# Altium footprint library COM Express.PcbLib: 1 footprints
Each footprint in its own frame and in the unit in brackets; x right, y up, seen from the top. Pads: shape width x height; smd on the part's side, far side on the other; paste and mask are expansions set on the pad; w line width, h text height; cw(c..) or ccw(c..) is an arc to the next point about the centre after c.
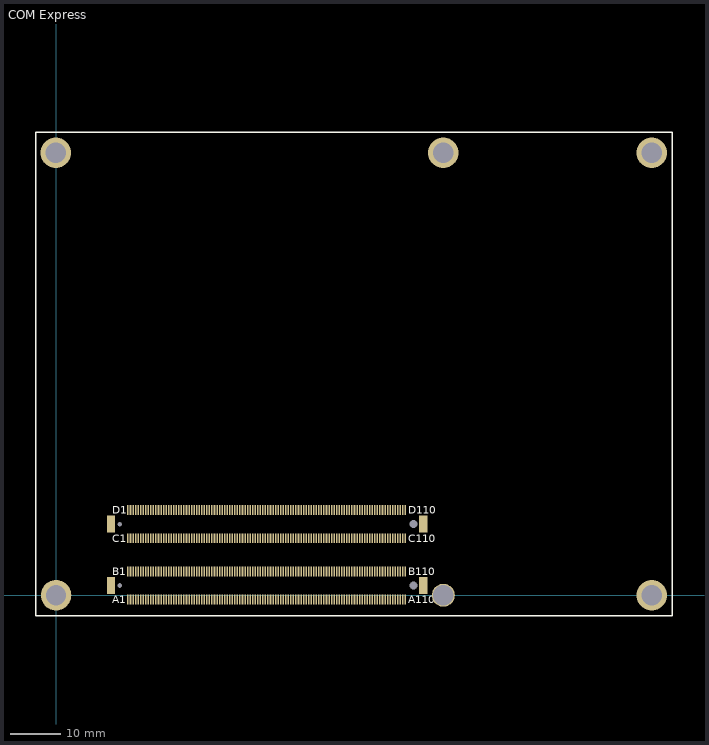
[diagram p0: the footprint, top view; thin cyan lines are the x and y axes]

## COM Express [mm]
pads (454):
  rect 0.3x1.95 smd: A1(14.125,-0.875) A2(14.625,-0.875) A3(15.125,-0.875) A4(15.625,-0.875) A5(16.125,-0.875) A6(16.625,-0.875) A7(17.125,-0.875) A8(17.625,-0.875) A9(18.125,-0.875) A10(18.625,-0.875) A11(19.125,-0.875) A12(19.625,-0.875) A13(20.125,-0.875) A14(20.625,-0.875) A15(21.125,-0.875) A16(21.625,-0.875) A17(22.125,-0.875) A18(22.625,-0.875) A19(23.125,-0.875) A20(23.625,-0.875) A21(24.125,-0.875) A22(24.625,-0.875) A23(25.125,-0.875) A24(25.625,-0.875) A25(26.125,-0.875) A26(26.625,-0.875) A27(27.125,-0.875) A28(27.625,-0.875) A29(28.125,-0.875) A30(28.625,-0.875) A31(29.125,-0.875) A32(29.625,-0.875) A33(30.125,-0.875) A34(30.625,-0.875) A35(31.125,-0.875) A36(31.625,-0.875) A37(32.125,-0.875) A38(32.625,-0.875) A39(33.125,-0.875) A40(33.625,-0.875) A41(34.125,-0.875) A42(34.625,-0.875) A43(35.125,-0.875) A44(35.625,-0.875) A45(36.125,-0.875) A46(36.625,-0.875) A47(37.125,-0.875) A48(37.625,-0.875) A49(38.125,-0.875) A50(38.625,-0.875) A51(39.125,-0.875) A52(39.625,-0.875) A53(40.125,-0.875) A54(40.625,-0.875) A55(41.125,-0.875) A56(41.625,-0.875) A57(42.125,-0.875) A58(42.625,-0.875) A59(43.125,-0.875) A60(43.625,-0.875) A61(44.125,-0.875) A62(44.625,-0.875) A63(45.125,-0.875) A64(45.625,-0.875) A65(46.125,-0.875) A66(46.625,-0.875) A67(47.125,-0.875) A68(47.625,-0.875) A69(48.125,-0.875) A70(48.625,-0.875) A71(49.125,-0.875) A72(49.625,-0.875) A73(50.125,-0.875) A74(50.625,-0.875) A75(51.125,-0.875) A76(51.625,-0.875) A77(52.125,-0.875) A78(52.625,-0.875) A79(53.125,-0.875) A80(53.625,-0.875) A81(54.125,-0.875) A82(54.625,-0.875) A83(55.125,-0.875) A84(55.625,-0.875) A85(56.125,-0.875) A86(56.625,-0.875) A87(57.125,-0.875) A88(57.625,-0.875) A89(58.125,-0.875) A90(58.625,-0.875) A91(59.125,-0.875) A92(59.625,-0.875) A93(60.125,-0.875) A94(60.625,-0.875) A95(61.125,-0.875) A96(61.625,-0.875) A97(62.125,-0.875) A98(62.625,-0.875) A99(63.125,-0.875) A100(63.625,-0.875) A101(64.125,-0.875) A102(64.625,-0.875) A103(65.125,-0.875) A104(65.625,-0.875) A105(66.125,-0.875) A106(66.625,-0.875) A107(67.125,-0.875) A108(67.625,-0.875) A109(68.125,-0.875) A110(68.625,-0.875) B1(14.125,4.675) B2(14.625,4.675) B3(15.125,4.675) B4(15.625,4.675) B5(16.125,4.675) B6(16.625,4.675) B7(17.125,4.675) B8(17.625,4.675) B9(18.125,4.675) B10(18.625,4.675) B11(19.125,4.675) B12(19.625,4.675) B13(20.125,4.675) B14(20.625,4.675) B15(21.125,4.675) B16(21.625,4.675) B17(22.125,4.675) B18(22.625,4.675) B19(23.125,4.675) B20(23.625,4.675) B21(24.125,4.675) B22(24.625,4.675) B23(25.125,4.675) B24(25.625,4.675) B25(26.125,4.675) B26(26.625,4.675) B27(27.125,4.675) B28(27.625,4.675) B29(28.125,4.675) B30(28.625,4.675) B31(29.125,4.675) B32(29.625,4.675) B33(30.125,4.675) B34(30.625,4.675) B35(31.125,4.675) B36(31.625,4.675) B37(32.125,4.675) B38(32.625,4.675) B39(33.125,4.675) B40(33.625,4.675) B41(34.125,4.675) B42(34.625,4.675) B43(35.125,4.675) B44(35.625,4.675) B45(36.125,4.675) B46(36.625,4.675) B47(37.125,4.675) B48(37.625,4.675) B49(38.125,4.675) B50(38.625,4.675) B51(39.125,4.675) B52(39.625,4.675) B53(40.125,4.675) B54(40.625,4.675) B55(41.125,4.675) B56(41.625,4.675) B57(42.125,4.675) B58(42.625,4.675) B59(43.125,4.675) B60(43.625,4.675) B61(44.125,4.675) B62(44.625,4.675) B63(45.125,4.675) B64(45.625,4.675) B65(46.125,4.675) B66(46.625,4.675) B67(47.125,4.675) B68(47.625,4.675) B69(48.125,4.675) B70(48.625,4.675) B71(49.125,4.675) B72(49.625,4.675) B73(50.125,4.675) B74(50.625,4.675) B75(51.125,4.675) B76(51.625,4.675) B77(52.125,4.675) B78(52.625,4.675) B79(53.125,4.675) B80(53.625,4.675) B81(54.125,4.675) B82(54.625,4.675) B83(55.125,4.675) B84(55.625,4.675) B85(56.125,4.675) B86(56.625,4.675) B87(57.125,4.675) B88(57.625,4.675) B89(58.125,4.675) B90(58.625,4.675) B91(59.125,4.675) B92(59.625,4.675) B93(60.125,4.675) B94(60.625,4.675) B95(61.125,4.675) B96(61.625,4.675) B97(62.125,4.675) B98(62.625,4.675) B99(63.125,4.675) B100(63.625,4.675) B101(64.125,4.675) B102(64.625,4.675) B103(65.125,4.675) B104(65.625,4.675) B105(66.125,4.675) B106(66.625,4.675) B107(67.125,4.675) B108(67.625,4.675) B109(68.125,4.675) B110(68.625,4.675) C1(14.125,11.175) C2(14.625,11.175) C3(15.125,11.175) C4(15.625,11.175) C5(16.125,11.175) C6(16.625,11.175) C7(17.125,11.175) C8(17.625,11.175) C9(18.125,11.175) C10(18.625,11.175) C11(19.125,11.175) C12(19.625,11.175) C13(20.125,11.175) C14(20.625,11.175) C15(21.125,11.175) C16(21.625,11.175) C17(22.125,11.175) C18(22.625,11.175) C19(23.125,11.175) C20(23.625,11.175) C21(24.125,11.175) C22(24.625,11.175) C23(25.125,11.175) C24(25.625,11.175) C25(26.125,11.175) C26(26.625,11.175) C27(27.125,11.175) C28(27.625,11.175) C29(28.125,11.175) C30(28.625,11.175) C31(29.125,11.175) C32(29.625,11.175) C33(30.125,11.175) C34(30.625,11.175) C35(31.125,11.175) C36(31.625,11.175) C37(32.125,11.175) C38(32.625,11.175) C39(33.125,11.175) C40(33.625,11.175) C41(34.125,11.175) C42(34.625,11.175) C43(35.125,11.175) C44(35.625,11.175) C45(36.125,11.175) C46(36.625,11.175) C47(37.125,11.175) C48(37.625,11.175) C49(38.125,11.175) C50(38.625,11.175) C51(39.125,11.175) C52(39.625,11.175) C53(40.125,11.175) C54(40.625,11.175) C55(41.125,11.175) C56(41.625,11.175) C57(42.125,11.175) C58(42.625,11.175) C59(43.125,11.175) C60(43.625,11.175) C61(44.125,11.175) C62(44.625,11.175) C63(45.125,11.175) C64(45.625,11.175) C65(46.125,11.175) C66(46.625,11.175) C67(47.125,11.175) C68(47.625,11.175) C69(48.125,11.175) C70(48.625,11.175) C71(49.125,11.175) C72(49.625,11.175) C73(50.125,11.175) C74(50.625,11.175) C75(51.125,11.175) C76(51.625,11.175) C77(52.125,11.175) C78(52.625,11.175) C79(53.125,11.175) C80(53.625,11.175) C81(54.125,11.175) C82(54.625,11.175) C83(55.125,11.175) C84(55.625,11.175) C85(56.125,11.175) C86(56.625,11.175) C87(57.125,11.175) C88(57.625,11.175) C89(58.125,11.175) C90(58.625,11.175) C91(59.125,11.175) C92(59.625,11.175) C93(60.125,11.175) C94(60.625,11.175) C95(61.125,11.175) C96(61.625,11.175) C97(62.125,11.175) C98(62.625,11.175) C99(63.125,11.175) C100(63.625,11.175) C101(64.125,11.175) C102(64.625,11.175) C103(65.125,11.175) C104(65.625,11.175) C105(66.125,11.175) C106(66.625,11.175) C107(67.125,11.175) C108(67.625,11.175) C109(68.125,11.175) C110(68.625,11.175) D1(14.125,16.725) D2(14.625,16.725) D3(15.125,16.725) D4(15.625,16.725) D5(16.125,16.725) D6(16.625,16.725) D7(17.125,16.725) D8(17.625,16.725) D9(18.125,16.725) D10(18.625,16.725) D11(19.125,16.725) D12(19.625,16.725) D13(20.125,16.725) D14(20.625,16.725) D15(21.125,16.725) D16(21.625,16.725) D17(22.125,16.725) D18(22.625,16.725) D19(23.125,16.725) D20(23.625,16.725) D21(24.125,16.725) D22(24.625,16.725) D23(25.125,16.725) D24(25.625,16.725) D25(26.125,16.725) D26(26.625,16.725) D27(27.125,16.725) D28(27.625,16.725) D29(28.125,16.725) D30(28.625,16.725) D31(29.125,16.725) D32(29.625,16.725) D33(30.125,16.725) D34(30.625,16.725) D35(31.125,16.725) D36(31.625,16.725) D37(32.125,16.725) D38(32.625,16.725) D39(33.125,16.725) D40(33.625,16.725) D41(34.125,16.725) D42(34.625,16.725) D43(35.125,16.725) D44(35.625,16.725) D45(36.125,16.725) D46(36.625,16.725) D47(37.125,16.725) D48(37.625,16.725) D49(38.125,16.725) D50(38.625,16.725) D51(39.125,16.725) D52(39.625,16.725) D53(40.125,16.725) D54(40.625,16.725) D55(41.125,16.725) D56(41.625,16.725) D57(42.125,16.725) D58(42.625,16.725) D59(43.125,16.725) D60(43.625,16.725) D61(44.125,16.725) D62(44.625,16.725) D63(45.125,16.725) D64(45.625,16.725) D65(46.125,16.725) D66(46.625,16.725) D67(47.125,16.725) D68(47.625,16.725) D69(48.125,16.725) D70(48.625,16.725) D71(49.125,16.725) D72(49.625,16.725) D73(50.125,16.725) D74(50.625,16.725) D75(51.125,16.725) D76(51.625,16.725) D77(52.125,16.725) D78(52.625,16.725) D79(53.125,16.725) D80(53.625,16.725) D81(54.125,16.725) D82(54.625,16.725) D83(55.125,16.725) D84(55.625,16.725) D85(56.125,16.725) D86(56.625,16.725) D87(57.125,16.725) D88(57.625,16.725) D89(58.125,16.725) D90(58.625,16.725) D91(59.125,16.725) D92(59.625,16.725) D93(60.125,16.725) D94(60.625,16.725) D95(61.125,16.725) D96(61.625,16.725) D97(62.125,16.725) D98(62.625,16.725) D99(63.125,16.725) D100(63.625,16.725) D101(64.125,16.725) D102(64.625,16.725) D103(65.125,16.725) D104(65.625,16.725) D105(66.125,16.725) D106(66.625,16.725) D107(67.125,16.725) D108(67.625,16.725) D109(68.125,16.725) D110(68.625,16.725)
  round 6 hole 4: ""(-0.05,86.875) ""(0,0) ""(76.075,86.875) ""(117.025,-0.025) ""(117.025,86.875)
  rect 1.65x3.3 smd: ""(10.8,1.9) ""(10.8,13.95) ""(72.125,1.9) ""(72.125,13.95)
  round 0 hole 0.9: ""(12.525,1.9) ""(12.525,13.95)
  round 0 hole 1.6: ""(70.225,1.925) ""(70.225,13.975)
  round 4.5 hole 4: ""(76.075,-0.025)
Top Overlay:
  lines w0.254: -3.975,-4.075 121.025,-4.075 121.025,90.95 -3.975,90.95 -3.975,-4.075
  text "A1" at 11.075,-1.6 h1.52
  text "A110" at 69.175,-1.625 h1.52
  text "B1" at 11.075,3.9 h1.52
  text "C1" at 11.075,10.425 h1.52
  text "D1" at 11.075,15.975 h1.52
  text "B110" at 69.175,3.95 h1.52
  text "C110" at 69.175,10.35 h1.52
  text "D110" at 69.175,15.95 h1.52
3D body: height 21, standoff 0, extent -4,-4.075 121,90.925